# EAGLE library part ST10F168 (library st-microelectronics)
MICROCONTROLLER with CAN 2.0B INTERFACE Siemens compatible
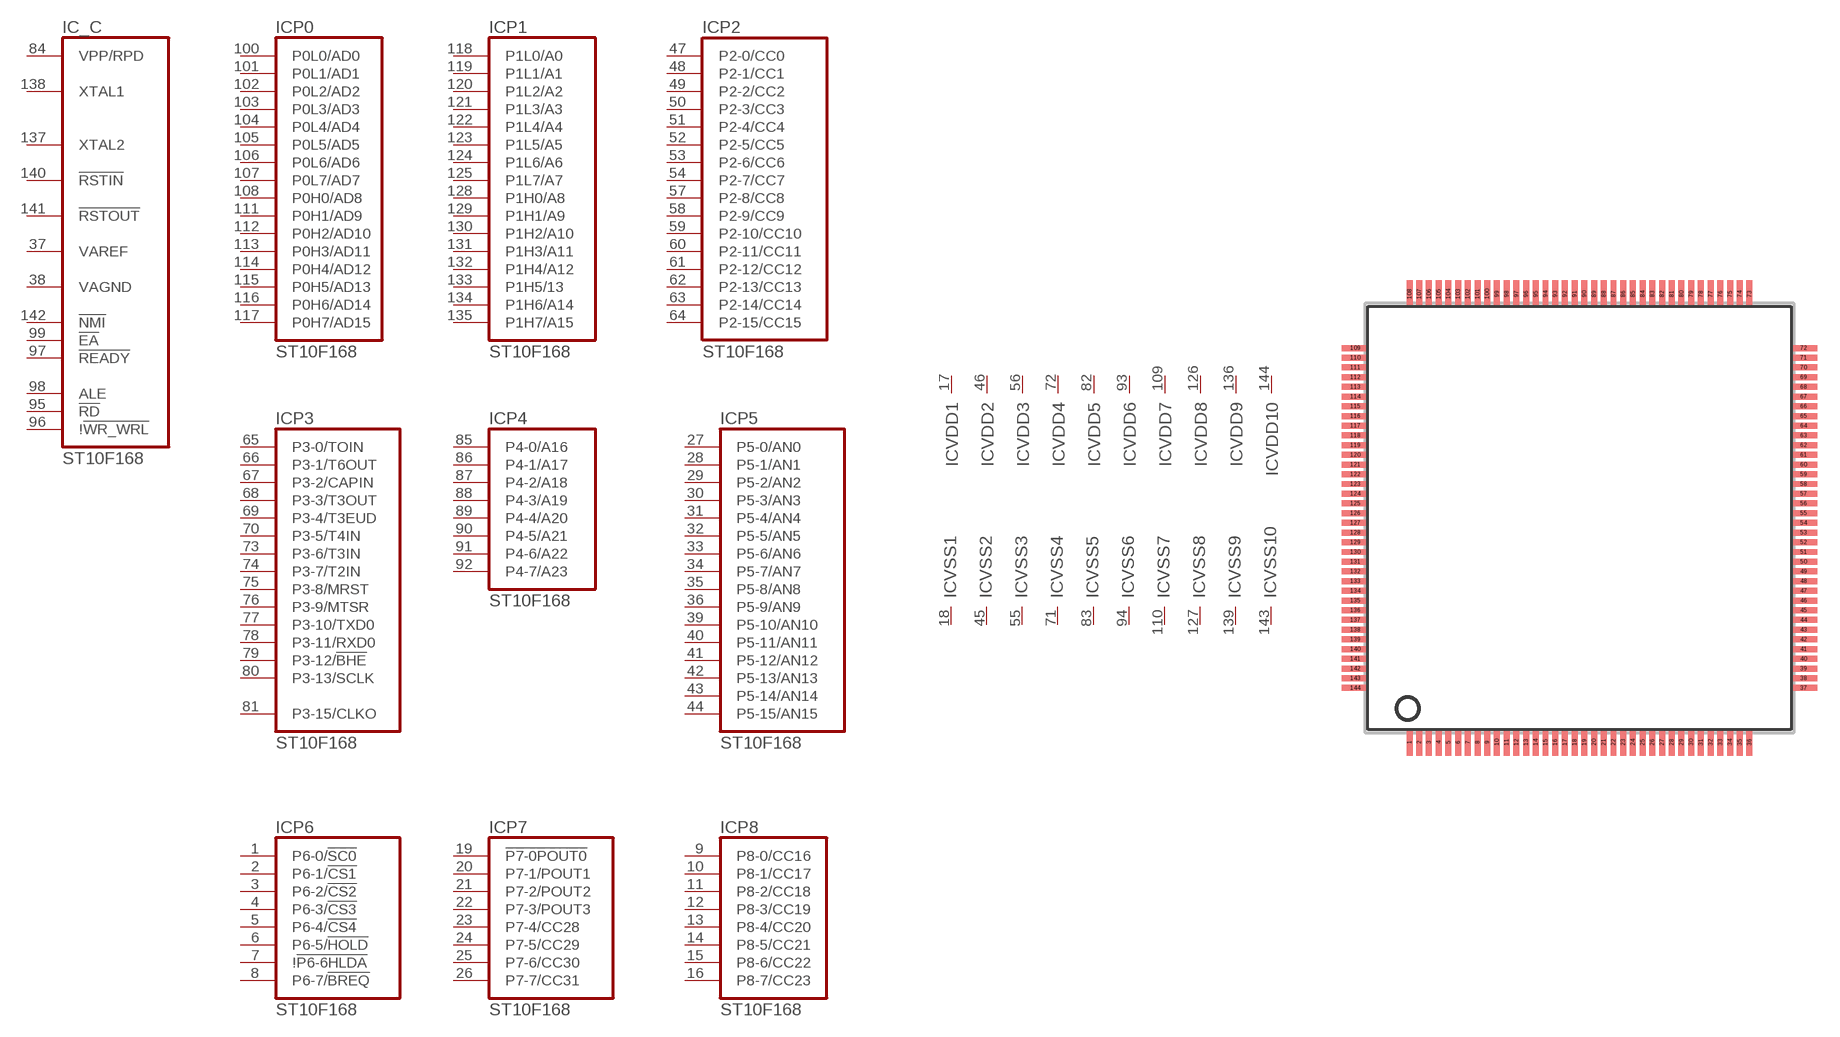
[diagram p17: symbol with the pads of PQFP144-28X28; footprint PQFP144-28X28]

Designator prefix IC; gates _C=F168_C P0=F168_P0 P1=F168_P1 P2=F168_P2 P4=F168_P4 P5=F168_P5 P6=F168_P6 P7=F168_P7 P8=F168_P8 VDD1=VDD VDD2=VDD VDD3=VDD VDD4=VDD VDD5=VDD VDD6=VDD VDD7=VDD VDD8=VDD VDD9=VDD VDD10=VDD VSS1=VSS VSS2=VSS VSS3=VSS VSS4=VSS VSS5=VSS VSS6=VSS VSS7=VSS VSS8=VSS VSS9=VSS VSS10=VSS P3=F168_P3

## ST10F168 (MPN: ST10F168SQ6/TR; OC_FARNELL: 1796092; OC_NEWARK: 37M7384)  [PQFP144-28X28]
1  P6:P6-0/!SC0
2  P6:P6-1/!CS1
3  P6:P6-2/!CS2
4  P6:P6-3/!CS3
5  P6:P6-4/!CS4
6  P6:P6-5/!HOLD
7  P6:!!P6-6HLDA
8  P6:P6-7/!BREQ
9  P8:P8-0/CC16
10  P8:P8-1/CC17
11  P8:P8-2/CC18
12  P8:P8-3/CC19
13  P8:P8-4/CC20
14  P8:P8-5/CC21
15  P8:P8-6/CC22
16  P8:P8-7/CC23
17  VDD1:VDD  pwr
18  VSS1:VSS  pwr
19  P7:!P7-0POUT0
20  P7:P7-1/POUT1
21  P7:P7-2/POUT2
22  P7:P7-3/POUT3
23  P7:P7-4/CC28
24  P7:P7-5/CC29
25  P7:P7-6/CC30
26  P7:P7-7/CC31
27  P5:P5-0/AN0  in
28  P5:P5-1/AN1  in
29  P5:P5-2/AN2  in
30  P5:P5-3/AN3  in
31  P5:P5-4/AN4  in
32  P5:P5-5/AN5  in
33  P5:P5-6/AN6  in
34  P5:P5-7/AN7  in
35  P5:P5-8/AN8  in
36  P5:P5-9/AN9  in
37  _C:VAREF  pas
38  _C:VAGND  pas
39  P5:P5-10/AN10  in
40  P5:P5-11/AN11  in
41  P5:P5-12/AN12  in
42  P5:P5-13/AN13  in
43  P5:P5-14/AN14  in
44  P5:P5-15/AN15  in
45  VSS2:VSS  pwr
46  VDD2:VDD  pwr
47  P2:P2-0/CC0
48  P2:P2-1/CC1
49  P2:P2-2/CC2
50  P2:P2-3/CC3
51  P2:P2-4/CC4
52  P2:P2-5/CC5
53  P2:P2-6/CC6
54  P2:P2-7/CC7
55  VSS3:VSS  pwr
56  VDD3:VDD  pwr
57  P2:P2-8/CC8
58  P2:P2-9/CC9
59  P2:P2-10/CC10
60  P2:P2-11/CC11
61  P2:P2-12/CC12
62  P2:P2-13/CC13
63  P2:P2-14/CC14
64  P2:P2-15/CC15
65  P3:P3-0/TOIN
66  P3:P3-1/T6OUT
67  P3:P3-2/CAPIN
68  P3:P3-3/T3OUT
69  P3:P3-4/T3EUD
70  P3:P3-5/T4IN
71  VSS4:VSS  pwr
72  VDD4:VDD  pwr
73  P3:P3-6/T3IN
74  P3:P3-7/T2IN
75  P3:P3-8/MRST
76  P3:P3-9/MTSR
77  P3:P3-10/TXD0
78  P3:P3-11/RXD0
79  P3:P3-12/!BHE
80  P3:P3-13/SCLK
81  P3:P3-15/CLKO
82  VDD5:VDD  pwr
83  VSS5:VSS  pwr
84  _C:VPP/RPD  in
85  P4:P4-0/A16
86  P4:P4-1/A17
87  P4:P4-2/A18
88  P4:P4-3/A19
89  P4:P4-4/A20
90  P4:P4-5/A21
91  P4:P4-6/A22
92  P4:P4-7/A23
93  VDD6:VDD  pwr
94  VSS6:VSS  pwr
95  _C:!RD  out
96  _C:!!WR_WRL  out
97  _C:!READY  in
98  _C:ALE  out
99  _C:!EA  in
100  P0:P0L0/AD0
101  P0:P0L1/AD1
102  P0:P0L2/AD2
103  P0:P0L3/AD3
104  P0:P0L4/AD4
105  P0:P0L5/AD5
106  P0:P0L6/AD6
107  P0:P0L7/AD7
108  P0:P0H0/AD8
109  VDD7:VDD  pwr
110  VSS7:VSS  pwr
111  P0:P0H1/AD9
112  P0:P0H2/AD10
113  P0:P0H3/AD11
114  P0:P0H4/AD12
115  P0:P0H5/AD13
116  P0:P0H6/AD14
117  P0:P0H7/AD15
118  P1:P1L0/A0
119  P1:P1L1/A1
120  P1:P1L2/A2
121  P1:P1L3/A3
122  P1:P1L4/A4
123  P1:P1L5/A5
124  P1:P1L6/A6
125  P1:P1L7/A7
126  VDD8:VDD  pwr
127  VSS8:VSS  pwr
128  P1:P1H0/A8
129  P1:P1H1/A9
130  P1:P1H2/A10
131  P1:P1H3/A11
132  P1:P1H4/A12
133  P1:P1H5/13
134  P1:P1H6/A14
135  P1:P1H7/A15
136  VDD9:VDD  pwr
137  _C:XTAL2  out
138  _C:XTAL1  in
139  VSS9:VSS  pwr
140  _C:!RSTIN  in
141  _C:!RSTOUT  out
142  _C:!NMI  in
143  VSS10:VSS  pwr
144  VDD10:VDD  pwr

## Footprint PQFP144-28X28 (pad centres in mm)
Plastic Quad Flat Pack
smd 0.4 x 1.8: 1 -11.375,-15; 2 -10.725,-15; 3 -10.075,-15; 4 -9.425,-15; 5 -8.775,-15; 6 -8.125,-15; 7 -7.475,-15; 8 -6.825,-15; 9 -6.175,-15; 10 -5.525,-15; 11 -4.875,-15; 12 -4.225,-15; 13 -3.575,-15; 14 -2.925,-15; 15 -2.275,-15; 16 -1.625,-15; 17 -0.975,-15; 18 -0.325,-15; 19 0.325,-15; 20 0.975,-15; 21 1.625,-15; 22 2.275,-15; 23 2.925,-15; 24 3.575,-15; 25 4.225,-15; 26 4.875,-15; 27 5.525,-15; 28 6.175,-15; 29 6.825,-15; 30 7.475,-15; 31 8.125,-15; 32 8.775,-15; 33 9.425,-15; 34 10.075,-15; 35 10.725,-15; 36 11.375,-15; 73 11.375,15; 74 10.725,15; 75 10.075,15; 76 9.425,15; 77 8.775,15; 78 8.125,15; 79 7.475,15; 80 6.825,15; 81 6.175,15; 82 5.525,15; 83 4.875,15; 84 4.225,15; 85 3.575,15; 86 2.925,15; 87 2.275,15; 88 1.625,15; 89 0.975,15; 90 0.325,15; 91 -0.325,15; 92 -0.975,15; 93 -1.625,15; 94 -2.275,15; 95 -2.925,15; 96 -3.575,15; 97 -4.225,15; 98 -4.875,15; 99 -5.525,15; 100 -6.175,15; 101 -6.825,15; 102 -7.475,15; 103 -8.125,15; 104 -8.775,15; 105 -9.425,15; 106 -10.075,15; 107 -10.725,15; 108 -11.375,15
smd 1.8 x 0.4: 37 15,-11.375; 38 15,-10.725; 39 15,-10.075; 40 15,-9.425; 41 15,-8.775; 42 15,-8.125; 43 15,-7.475; 44 15,-6.825; 45 15,-6.175; 46 15,-5.525; 47 15,-4.875; 48 15,-4.225; 49 15,-3.575; 50 15,-2.925; 51 15,-2.275; 52 15,-1.625; 53 15,-0.975; 54 15,-0.325; 55 15,0.325; 56 15,0.975; 57 15,1.625; 58 15,2.275; 59 15,2.925; 60 15,3.575; 61 15,4.225; 62 15,4.875; 63 15,5.525; 64 15,6.175; 65 15,6.825; 66 15,7.475; 67 15,8.125; 68 15,8.775; 69 15,9.425; 70 15,10.075; 71 15,10.725; 72 15,11.375; 109 -15,11.375; 110 -15,10.725; 111 -15,10.075; 112 -15,9.425; 113 -15,8.775; 114 -15,8.125; 115 -15,7.475; 116 -15,6.825; 117 -15,6.175; 118 -15,5.525; 119 -15,4.875; 120 -15,4.225; 121 -15,3.575; 122 -15,2.925; 123 -15,2.275; 124 -15,1.625; 125 -15,0.975; 126 -15,0.325; 127 -15,-0.325; 128 -15,-0.975; 129 -15,-1.625; 130 -15,-2.275; 131 -15,-2.925; 132 -15,-3.575; 133 -15,-4.225; 134 -15,-4.875; 135 -15,-5.525; 136 -15,-6.175; 137 -15,-6.825; 138 -15,-7.475; 139 -15,-8.125; 140 -15,-8.775; 141 -15,-9.425; 142 -15,-10.075; 143 -15,-10.725; 144 -15,-11.375